# Altium schematic symbol library MCU_MKlib.SchLib: 9 symbols
Pins are listed as number, name and electrical type; pins without a type are passive.

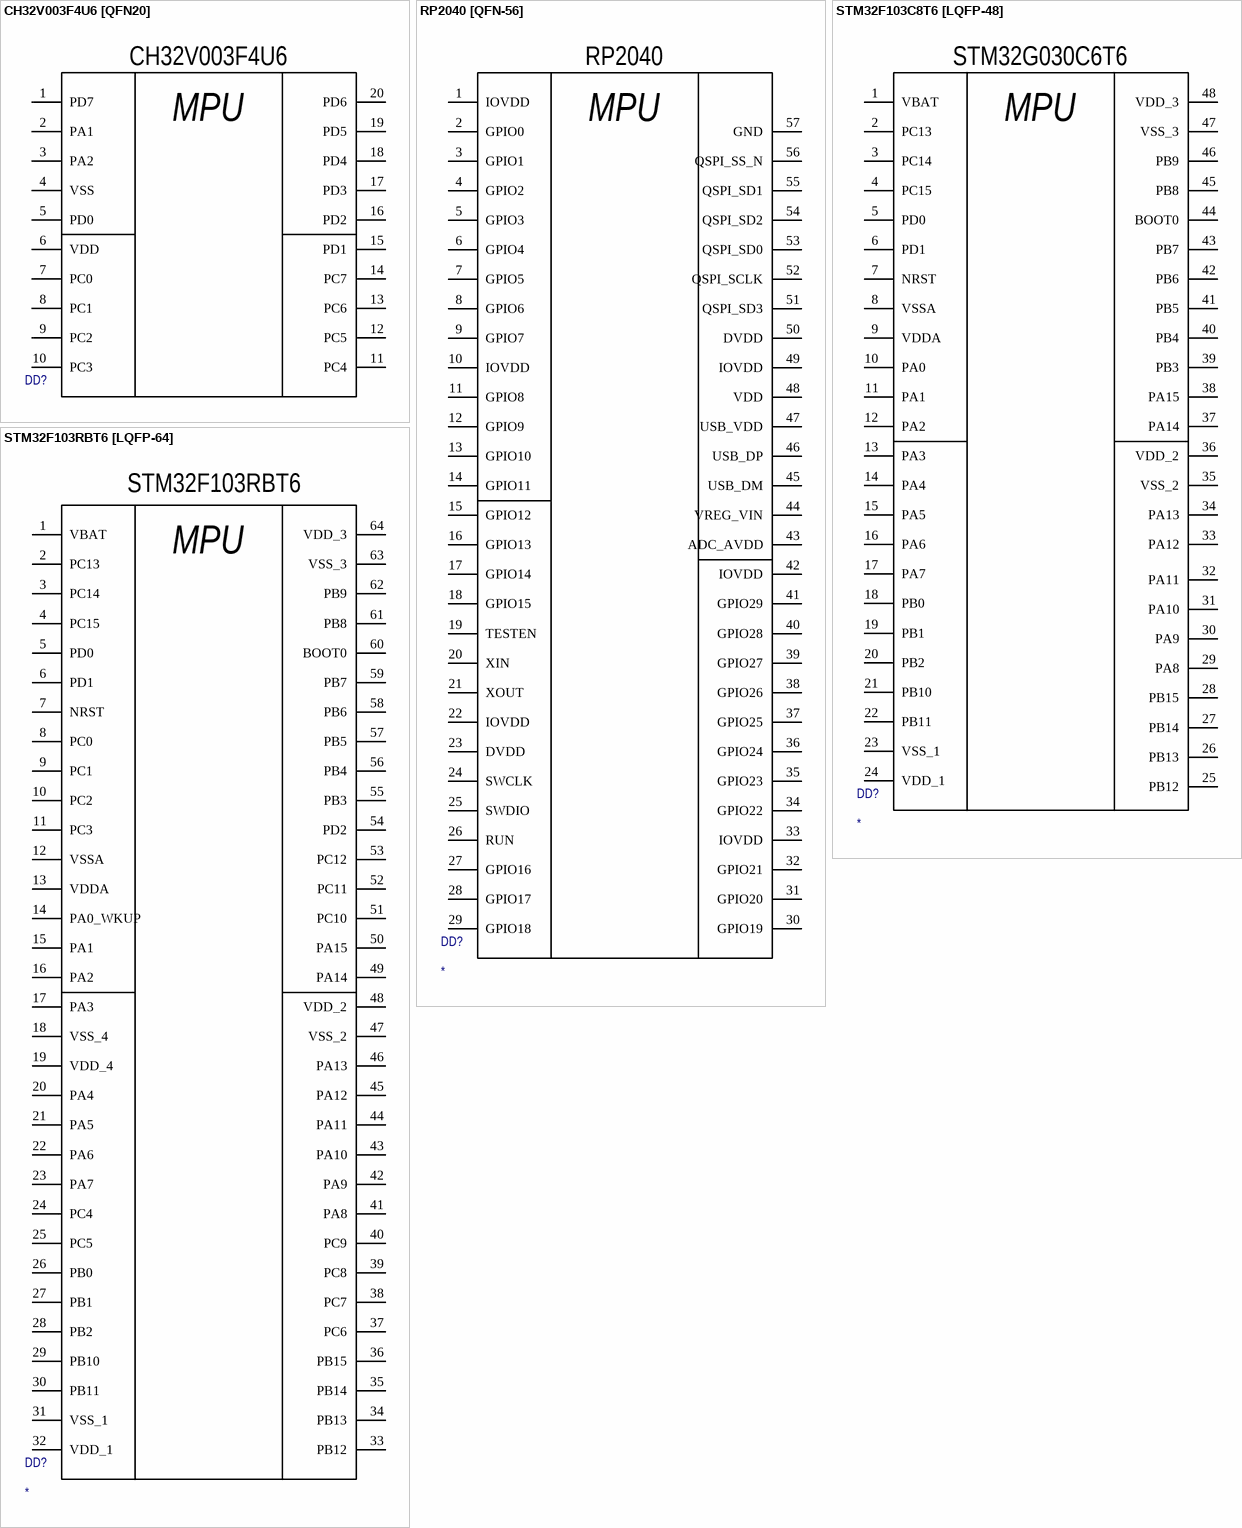
[diagram p0: symbols CH32V003F4U6 [QFN20] to STM32F103RBT6 [LQFP-64]]

## CH32V003F4U6 [QFN20]
designator DD?  (value not drawn)
32bit MCU RISC-V, 48MHz
footprint USBB-1J
pins: 1 PD7, 2 PA1, 3 PA2, 4 VSS, 5 PD0, 6 VDD, 7 PC0, 8 PC1, 9 PC2, 10 PC3, 11 PC4, 12 PC5, 13 PC6, 14 PC7, 15 PD1, 16 PD2, 17 PD3, 18 PD4, 19 PD5, 20 PD6
text: CH32V003F4U6; MPU

## RP2040 [QFN-56]
designator DD?
32bit MCU Dual ARM Cortex-M0+ 133MHz
footprint RP2040 [QFN-56]
pins: 1 IOVDD, 2 GPIO0, 3 GPIO1, 4 GPIO2, 5 GPIO3, 6 GPIO4, 7 GPIO5, 8 GPIO6, 9 GPIO7, 10 IOVDD, 11 GPIO8, 12 GPIO9, 13 GPIO10, 14 GPIO11, 15 GPIO12, 16 GPIO13, 17 GPIO14, 18 GPIO15, 19 TESTEN, 20 XIN, 21 XOUT, 22 IOVDD, 23 DVDD, 24 SWCLK, 25 SWDIO, 26 RUN, 27 GPIO16, 28 GPIO17, 29 GPIO18, 30 GPIO19, 31 GPIO20, 32 GPIO21, 33 IOVDD, 34 GPIO22, 35 GPIO23, 36 GPIO24, 37 GPIO25, 38 GPIO26, 39 GPIO27, 40 GPIO28, 41 GPIO29, 42 IOVDD, 43 ADC_AVDD, 44 VREG_VIN, 45 USB_DM, 46 USB_DP, 47 USB_VDD, 48 VDD, 49 IOVDD, 50 DVDD, 51 QSPI_SD3, 52 QSPI_SCLK, 53 QSPI_SD0, 54 QSPI_SD2, 55 QSPI_SD1, 56 QSPI_SS_N, 57 GND
text: RP2040; MPU

## STM32F103C8T6 [LQFP-48]
designator DD?
32bit MCU ARM Cortex-M3 72MHz
footprint STM32 [LQFP-48]
pins: 1 VBAT, 2 PC13, 3 PC14, 4 PC15, 5 PD0, 6 PD1, 7 NRST, 8 VSSA, 9 VDDA, 10 PA0, 11 PA1, 12 PA2, 13 PA3, 14 PA4, 15 PA5, 16 PA6, 17 PA7, 18 PB0, 19 PB1, 20 PB2, 21 PB10, 22 PB11, 23 VSS_1, 24 VDD_1, 25 PB12, 26 PB13, 27 PB14, 28 PB15, 29 PA8, 30 PA9, 31 PA10, 32 PA11, 33 PA12, 34 PA13, 35 VSS_2, 36 VDD_2, 37 PA14, 38 PA15, 39 PB3, 40 PB4, 41 PB5, 42 PB6, 43 PB7, 44 BOOT0, 45 PB8, 46 PB9, 47 VSS_3, 48 VDD_3
text: STM32G030C6T6; MPU

## STM32F103RBT6 [LQFP-64]
designator DD?
32bit MCU ARM Cortex-M3 72MHz
footprint STM32 [LQFP-64]
pins: 1 VBAT, 2 PC13, 3 PC14, 4 PC15, 5 PD0, 6 PD1, 7 NRST, 8 PC0, 9 PC1, 10 PC2, 11 PC3, 12 VSSA, 13 VDDA, 14 PA0_WKUP, 15 PA1, 16 PA2, 17 PA3, 18 VSS_4, 19 VDD_4, 20 PA4, 21 PA5, 22 PA6, 23 PA7, 24 PC4, 25 PC5, 26 PB0, 27 PB1, 28 PB2, 29 PB10, 30 PB11, 31 VSS_1, 32 VDD_1, 33 PB12, 34 PB13, 35 PB14, 36 PB15, 37 PC6, 38 PC7, 39 PC8, 40 PC9, 41 PA8, 42 PA9, 43 PA10, 44 PA11, 45 PA12, 46 PA13, 47 VSS_2, 48 VDD_2, 49 PA14, 50 PA15, 51 PC10, 52 PC11, 53 PC12, 54 PD2, 55 PB3, 56 PB4, 57 PB5, 58 PB6, 59 PB7, 60 BOOT0, 61 PB8, 62 PB9, 63 VSS_3, 64 VDD_3
text: STM32F103RBT6; MPU

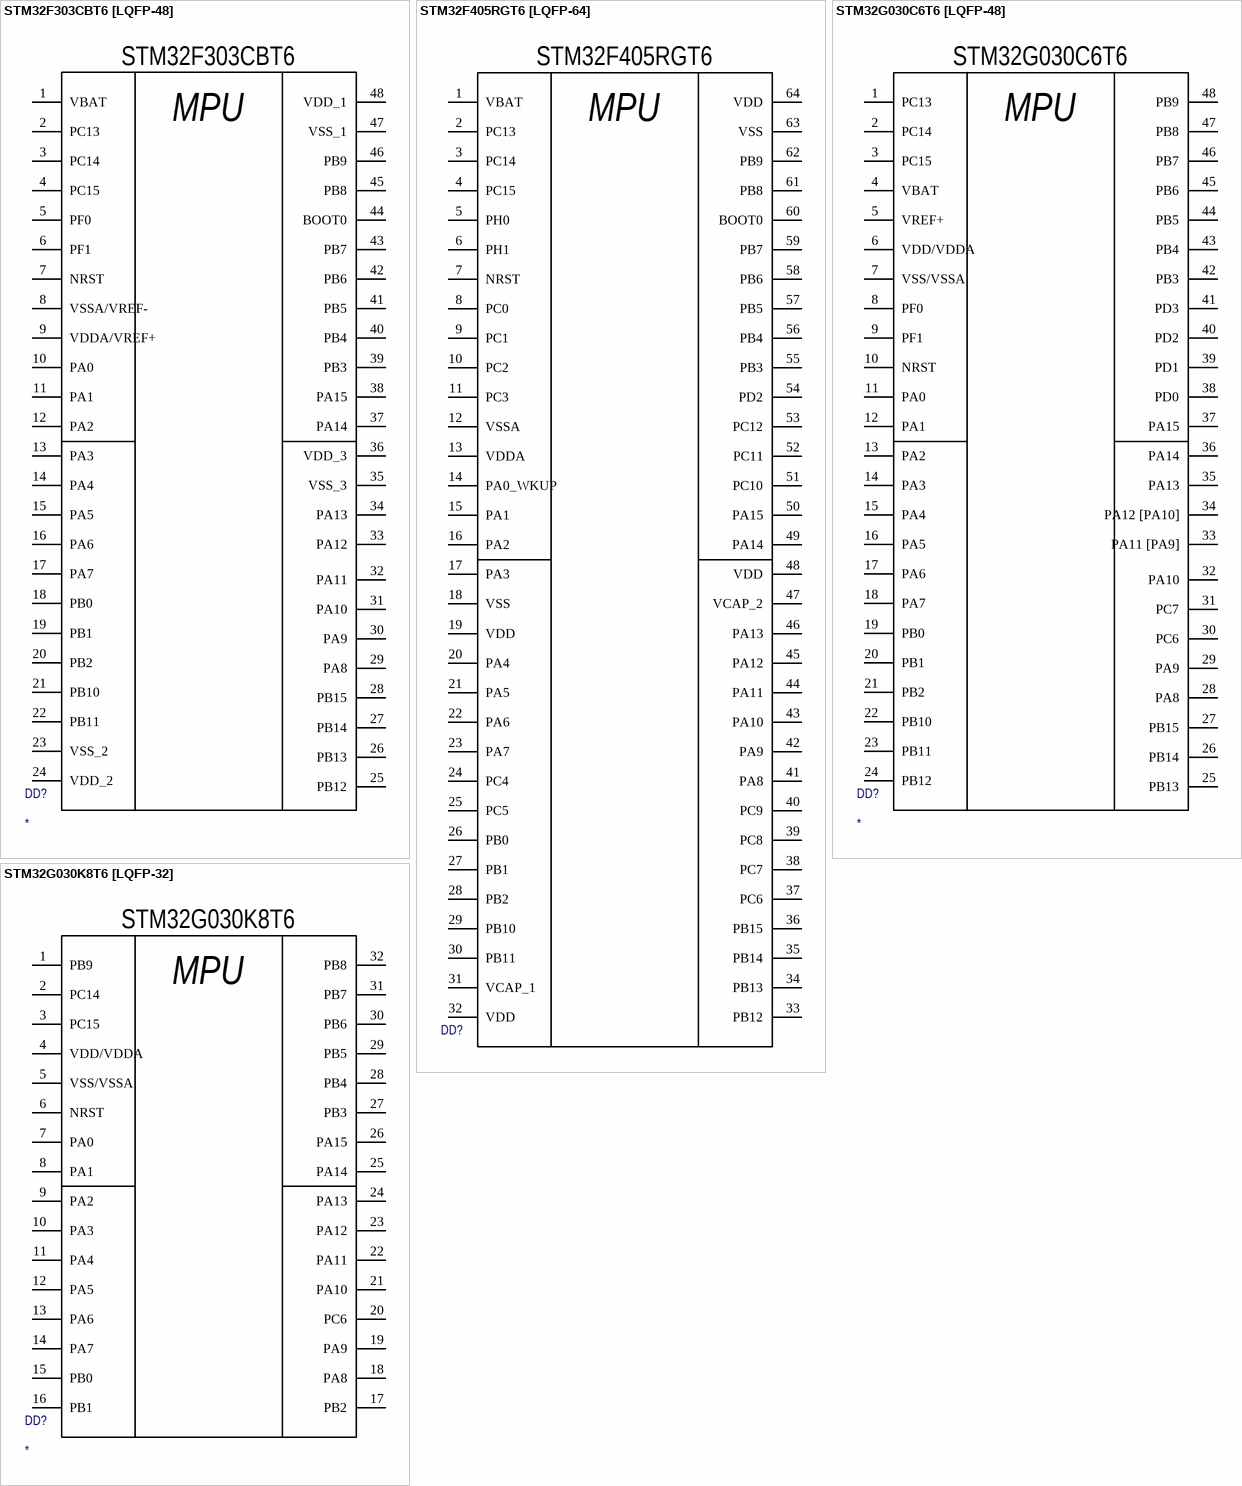
[diagram p1: symbols STM32F303CBT6 [LQFP-48] to STM32G030K8T6 [LQFP-32]]

## STM32F303CBT6 [LQFP-48]
designator DD?
32bit MCU ARM Cortex-M4 72MHz
footprint STM32 [LQFP-48]
pins: 1 VBAT, 2 PC13, 3 PC14, 4 PC15, 5 PF0, 6 PF1, 7 NRST, 8 VSSA/VREF-, 9 VDDA/VREF+, 10 PA0, 11 PA1, 12 PA2, 13 PA3, 14 PA4, 15 PA5, 16 PA6, 17 PA7, 18 PB0, 19 PB1, 20 PB2, 21 PB10, 22 PB11, 23 VSS_2, 24 VDD_2, 25 PB12, 26 PB13, 27 PB14, 28 PB15, 29 PA8, 30 PA9, 31 PA10, 32 PA11, 33 PA12, 34 PA13, 35 VSS_3, 36 VDD_3, 37 PA14, 38 PA15, 39 PB3, 40 PB4, 41 PB5, 42 PB6, 43 PB7, 44 BOOT0, 45 PB8, 46 PB9, 47 VSS_1, 48 VDD_1
text: STM32F303CBT6; MPU

## STM32F405RGT6 [LQFP-64]
designator DD?  (value not drawn)
32bit MCU ARM Cortex-M4 168MHz
footprint STM32 [LQFP-64]
pins: 1 VBAT, 2 PC13, 3 PC14, 4 PC15, 5 PH0, 6 PH1, 7 NRST, 8 PC0, 9 PC1, 10 PC2, 11 PC3, 12 VSSA, 13 VDDA, 14 PA0_WKUP, 15 PA1, 16 PA2, 17 PA3, 18 VSS, 19 VDD, 20 PA4, 21 PA5, 22 PA6, 23 PA7, 24 PC4, 25 PC5, 26 PB0, 27 PB1, 28 PB2, 29 PB10, 30 PB11, 31 VCAP_1, 32 VDD, 33 PB12, 34 PB13, 35 PB14, 36 PB15, 37 PC6, 38 PC7, 39 PC8, 40 PC9, 41 PA8, 42 PA9, 43 PA10, 44 PA11, 45 PA12, 46 PA13, 47 VCAP_2, 48 VDD, 49 PA14, 50 PA15, 51 PC10, 52 PC11, 53 PC12, 54 PD2, 55 PB3, 56 PB4, 57 PB5, 58 PB6, 59 PB7, 60 BOOT0, 61 PB8, 62 PB9, 63 VSS, 64 VDD
text: STM32F405RGT6; MPU

## STM32G030C6T6 [LQFP-48]
designator DD?
32bit MCU ARM Cortex-M0+ 64MHz
footprint STM32 [LQFP-48]
pins: 1 PC13, 2 PC14, 3 PC15, 4 VBAT, 5 VREF+, 6 VDD/VDDA, 7 VSS/VSSA, 8 PF0, 9 PF1, 10 NRST, 11 PA0, 12 PA1, 13 PA2, 14 PA3, 15 PA4, 16 PA5, 17 PA6, 18 PA7, 19 PB0, 20 PB1, 21 PB2, 22 PB10, 23 PB11, 24 PB12, 25 PB13, 26 PB14, 27 PB15, 28 PA8, 29 PA9, 30 PC6, 31 PC7, 32 PA10, 33 PA11 [PA9], 34 PA12 [PA10], 35 PA13, 36 PA14, 37 PA15, 38 PD0, 39 PD1, 40 PD2, 41 PD3, 42 PB3, 43 PB4, 44 PB5, 45 PB6, 46 PB7, 47 PB8, 48 PB9
text: STM32G030C6T6; MPU

## STM32G030K8T6 [LQFP-32]
designator DD?
32bit MCU ARM Cortex-M0+ 64MHz
footprint STM32 [LQFP-32]
pins: 1 PB9, 2 PC14, 3 PC15, 4 VDD/VDDA, 5 VSS/VSSA, 6 NRST, 7 PA0, 8 PA1, 9 PA2, 10 PA3, 11 PA4, 12 PA5, 13 PA6, 14 PA7, 15 PB0, 16 PB1, 17 PB2, 18 PA8, 19 PA9, 20 PC6, 21 PA10, 22 PA11, 23 PA12, 24 PA13, 25 PA14, 26 PA15, 27 PB3, 28 PB4, 29 PB5, 30 PB6, 31 PB7, 32 PB8
text: STM32G030K8T6; MPU

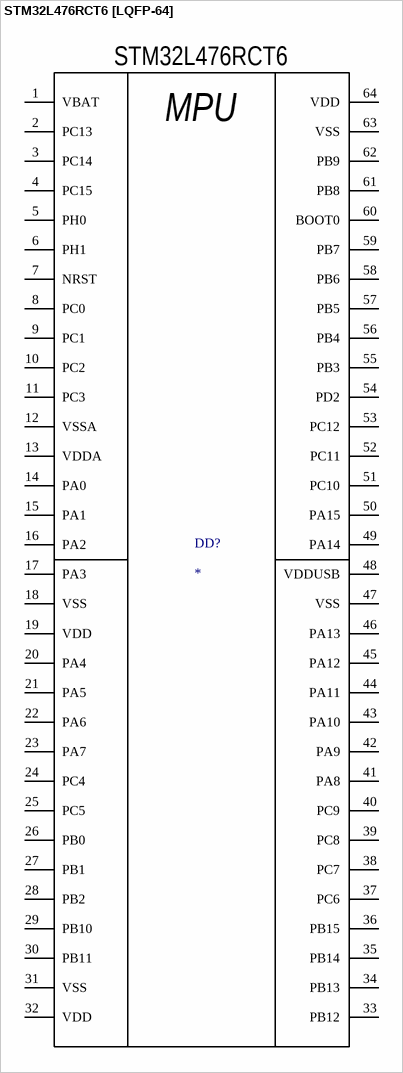
[diagram p2: symbol STM32L476RCT6 [LQFP-64]]

## STM32L476RCT6 [LQFP-64]
designator DD?
Ultra-low-power Arm® Cortex®-M4 32-bit MCU+FPU, 100DMIPS, / up to 1MB Flash, 128 KB SRAM, USB OTG FS, LCD, ext. SMPS
pins: 1 VBAT, 2 PC13, 3 PC14, 4 PC15, 5 PH0, 6 PH1, 7 NRST, 8 PC0, 9 PC1, 10 PC2, 11 PC3, 12 VSSA, 13 VDDA, 14 PA0, 15 PA1, 16 PA2, 17 PA3, 18 VSS, 19 VDD, 20 PA4, 21 PA5, 22 PA6, 23 PA7, 24 PC4, 25 PC5, 26 PB0, 27 PB1, 28 PB2, 29 PB10, 30 PB11, 31 VSS, 32 VDD, 33 PB12, 34 PB13, 35 PB14, 36 PB15, 37 PC6, 38 PC7, 39 PC8, 40 PC9, 41 PA8, 42 PA9, 43 PA10, 44 PA11, 45 PA12, 46 PA13, 47 VSS, 48 VDDUSB, 49 PA14, 50 PA15, 51 PC10, 52 PC11, 53 PC12, 54 PD2, 55 PB3, 56 PB4, 57 PB5, 58 PB6, 59 PB7, 60 BOOT0, 61 PB8, 62 PB9, 63 VSS, 64 VDD
text: STM32L476RCT6; MPU